# EAGLE library part RJ45-8 (library SteveMarple)
RJ45 Jack Simple RJ45, 8-pin connection - connector for common Cat5, Cat5e, and Cat6 Ethernet cables. Footprint not yet proven in production. Connector sku is PRT-00643; Breakout PCB sku is BOB-00716.
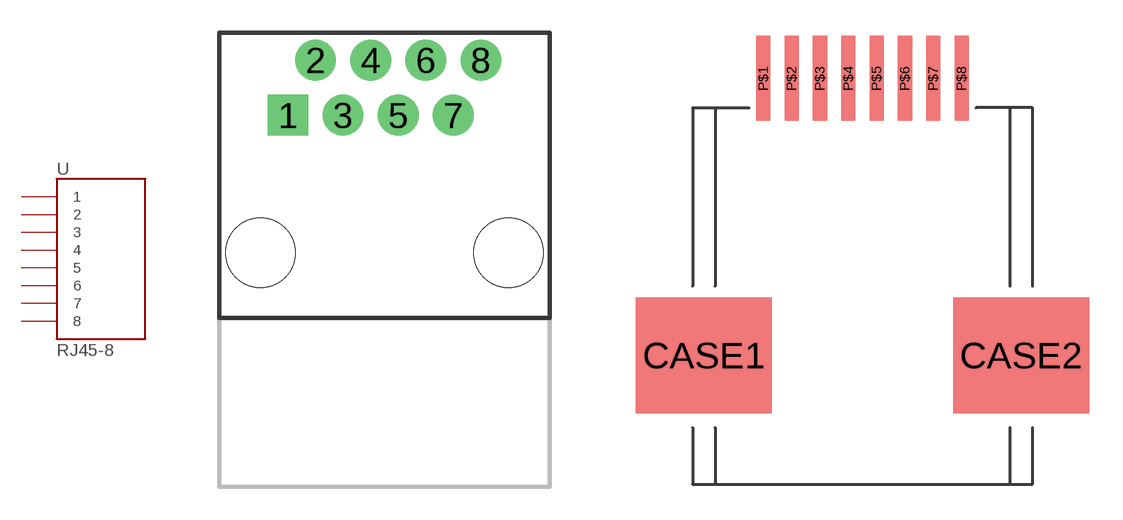
[diagram p21: symbol with the pads of RJ45-8; footprints RJ45-8, RJ45-MOLEX-44144-6P6C-8P8C-HAND]

Designator prefix -

## RJ45-8PTH  [RJ45-8]
1  1
2  2
3  3
4  4
5  5
6  6
7  7
8  8

## RJ45-844144-6P6C-8P8C-HAND  [RJ45-MOLEX-44144-6P6C-8P8C-HAND]
P$1  1
P$2  2
P$3  3
P$4  4
P$5  5
P$6  6
P$7  7
P$8  8

## RJ45-8MOLEX-44144-8P8C  [RJ45-MOLEX-44144-8P8C]
Pads as for RJ45-MOLEX-44144-6P6C-8P8C-HAND

## RJ45-8MOLEX-44144-8P8C-HAND  [RJ45-MOLEX-44144-8P8C-HAND]
Pads as for RJ45-MOLEX-44144-6P6C-8P8C-HAND

## Footprint RJ45-8 (pad centres in mm)
drill 1 pad 1.88 square: 1 -4.445,6.35
drill 1 pad 1.88: 2 -3.175,8.89; 3 -1.905,6.35; 4 -0.635,8.89; 5 0.635,6.35; 6 1.905,8.89; 7 3.175,6.35; 8 4.445,8.89
hole 3.2 at -5.715,0
hole 3.2 at 5.715,0

## Footprint RJ45-MOLEX-44144-6P6C-8P8C-HAND (pad centres in mm)
smd 6.096 x 5.207: CASE1 -7.112,-11.113; CASE2 7.112,-11.113
smd 0.635 x 3.81: P$1 -4.445,1.321; P$2 -3.175,1.321; P$3 -1.905,1.321; P$4 -0.635,1.321; P$5 0.635,1.321; P$6 1.905,1.321; P$7 3.175,1.321; P$8 4.445,1.321

## Footprint RJ45-MOLEX-44144-8P8C (pad centres in mm)
smd 2.54 x 5.207: CASE1 -6.35,-11.113; CASE2 6.35,-11.113
smd 0.635 x 2.54: P$1 -4.445,0.686; P$2 -3.175,0.686; P$3 -1.905,0.686; P$4 -0.635,0.686; P$5 0.635,0.686; P$6 1.905,0.686; P$7 3.175,0.686; P$8 4.445,0.686

## Footprint RJ45-MOLEX-44144-8P8C-HAND (pad centres in mm)
smd 5.08 x 5.207: CASE1 -7.62,-11.113; CASE2 7.62,-11.113
smd 0.635 x 3.81: P$1 -4.445,1.321; P$2 -3.175,1.321; P$3 -1.905,1.321; P$4 -0.635,1.321; P$5 0.635,1.321; P$6 1.905,1.321; P$7 3.175,1.321; P$8 4.445,1.321